# Altium footprint library 3.81接插件.PcbLib: 4 footprints
Each footprint in its own frame and in the unit in brackets; x right, y up, seen from the top. Pads: shape width x height; smd on the part's side, far side on the other; paste and mask are expansions set on the pad; w line width, h text height; cw(c..) or ccw(c..) is an arc to the next point about the centre after c.
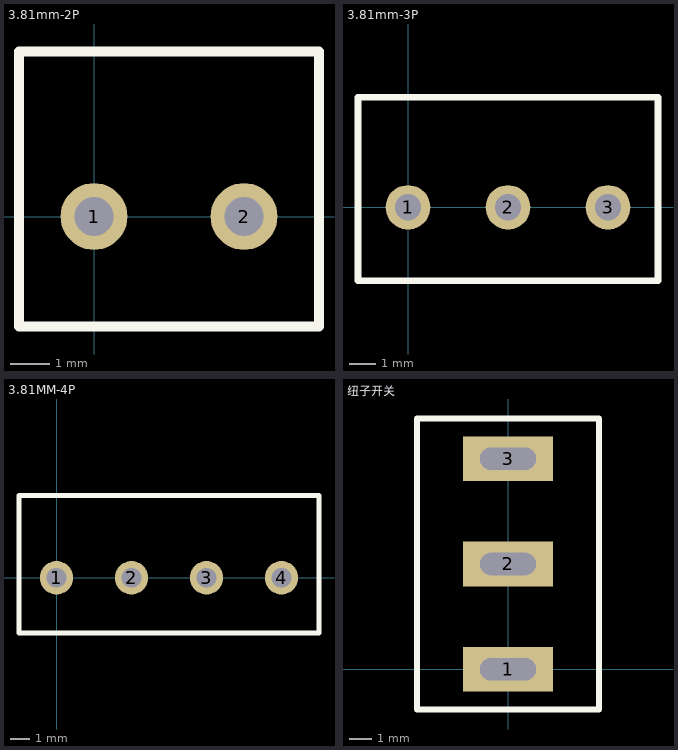
[diagram p0: the footprints below, top view; thin cyan lines are the x and y axes]

## 3.81mm-2P [mm]
pads (2):
  round 1.7 hole 1: 1(0,0) 2(3.81,0)
Top Overlay:
  lines w0.254: -1.905,-2.794 -1.905,4.191 5.715,4.191 5.715,-2.794 -1.905,-2.794

## 3.81mm-3P [mm]
pads (3):
  round 1.7 hole 1: 1(0,0) 2(3.81,0) 3(7.62,0)
Top Overlay:
  lines w0.254: 9.525,-2.8 9.525,4.2 ; 9.525,-2.794 -1.905,-2.794 -1.905,4.191 9.525,4.191

## 3.81MM-4P [mm]
pads (4):
  round 1.7 hole 1: 1(0,0) 2(3.81,0) 3(7.62,0) 4(11.43,0)
Top Overlay:
  lines w0.254: -1.905,-2.794 13.335,-2.794 13.335,4.191 -1.905,4.191 -1.905,-2.794

## 纽子开关 [mm]
pads (3):
  rect 4x2 hole 1 slot 2.5 at 0 deg: 1(0,0) 2(0,4.7) 3(0,9.4)
Top Overlay:
  lines w0.254: -4.064,-1.8 -4.064,11.2 ; -4,-1.8 4.064,-1.8 4.064,11.2 -4,11.2